# EAGLE library part 16SEG-LED (library HustleLib)
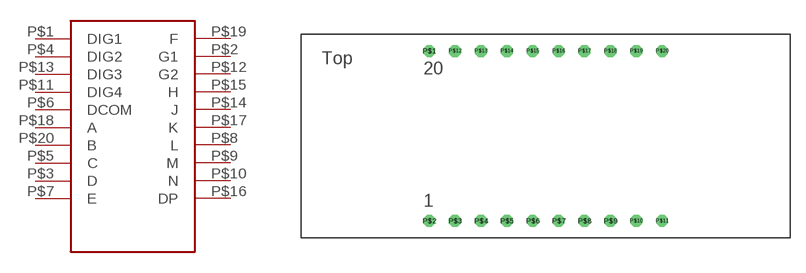
[diagram p0: symbol with the pads of 16SEG-LED; footprint 16SEG-LED]

Designator prefix -

## 16SEG-LED  [16SEG-LED]
P$1  DIG1
P$2  G1
P$3  D
P$4  DIG2
P$5  C
P$6  DCOM
P$7  E
P$8  L
P$9  M
P$10  N
P$11  DIG4
P$12  G2
P$13  DIG3
P$14  J
P$15  H
P$16  DP
P$17  K
P$18  A
P$19  F
P$20  B

## Footprint 16SEG-LED (pad centres in mm)
drill 0.65 octagon: P$1 -11.43,8.35; P$2 -11.43,-8.35; P$3 -8.89,-8.35; P$4 -6.35,-8.35; P$5 -3.81,-8.35; P$6 -1.27,-8.35; P$7 1.27,-8.35; P$8 3.81,-8.35; P$9 6.35,-8.35; P$10 8.89,-8.35; P$11 11.43,-8.35; P$12 -8.89,8.35; P$13 -6.35,8.35; P$14 -3.81,8.35; P$15 -1.27,8.35; P$16 1.27,8.35; P$17 3.81,8.35; P$18 6.35,8.35; P$19 8.89,8.35; P$20 11.43,8.35